# EAGLE library part ISL97671A (library MyLibrary)
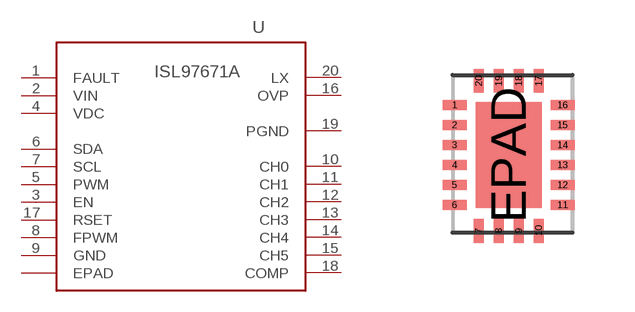
[diagram p1: symbol with the pads of QFN20; footprint QFN20]

Designator prefix U

## ISL97671A  [QFN20]
1  FAULT  out
2  VIN  sup
3  EN  in
4  VDC  in
5  PWM  in
6  SDA
7  SCL  in
8  FPWM  in
9  GND  pwr
10  CH0  in
11  CH1  in
12  CH2  in
13  CH3  in
14  CH4  in
15  CH5  in
16  OVP  in
17  RSET  in
18  COMP  out
19  PGND
20  LX  out
EPAD  EPAD  pwr

## Footprint QFN20 (pad centres in mm)
smd 0.6 x 0.25: 1 -1.4,1.25; 2 -1.4,0.75; 3 -1.4,0.25; 4 -1.4,-0.25; 5 -1.4,-0.75; 6 -1.4,-1.25; 11 1.3,-1.25; 12 1.3,-0.75; 13 1.3,-0.25; 14 1.3,0.25; 15 1.3,0.75; 16 1.3,1.25
smd 0.25 x 0.6: 7 -0.8,-1.9; 8 -0.3,-1.9; 9 0.2,-1.9; 10 0.7,-1.9; 17 0.7,1.85; 18 0.2,1.85; 19 -0.3,1.85; 20 -0.8,1.85
smd 1.65 x 2.65: EPAD -0.05,0